# Altium footprint library TDKLambdaRegulator.PcbLib: 1 footprints
Each footprint in its own frame and in the unit in brackets; x right, y up, seen from the top. Pads: shape width x height; smd on the part's side, far side on the other; paste and mask are expansions set on the pad; w line width, h text height; cw(c..) or ccw(c..) is an arc to the next point about the centre after c.
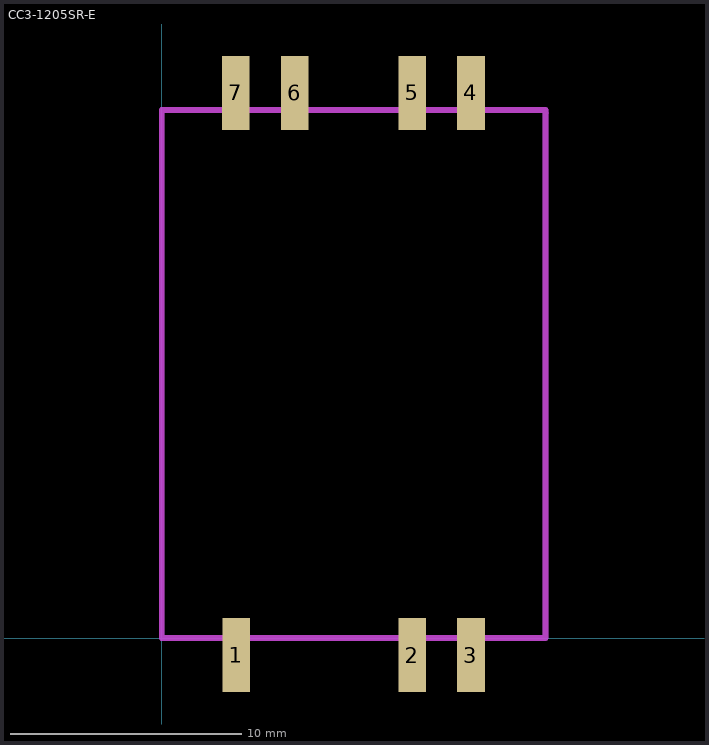
[diagram p0: the footprint, top view; thin cyan lines are the x and y axes]

## CC3-1205SR-E [mm] "DC - DC (12V - 5V) Switching Regulator (16.6mm x 22.86mm x 8.8mm)"
height 8.8
pads (7):
  rect 1.2x3.2 all layers, no hole: 1(3.22,-0.74) 2(10.84,-0.74) 3(13.38,-0.74) 4(13.38,23.6) 5(10.84,23.6) 6(5.76,23.6) 7(3.2,23.6)
Keep-Out Layer:
  lines w0.254: 16.51,22.86 16.637,22.733 ; 0,0 0,22.86 16.6,22.86 16.6,0 0,0
Mechanical 1:
  lines w0.254: 0,0 0,22.86 16.6,22.86 16.6,0 0,0
3D body: height 8.8, standoff 0.7, extent 0,0 16.6,22.86